# Altium integrated library NE5532P.IntLib: 1 symbol
Pins are listed as number, name and electrical type; pins without a type are passive.

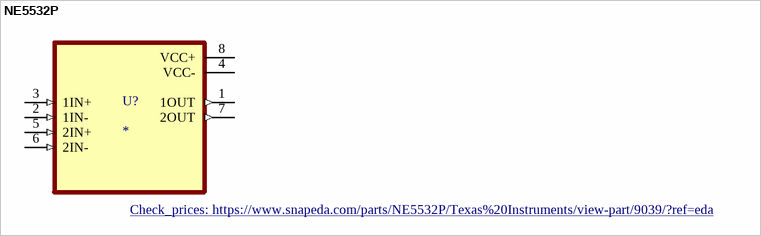
[diagram p0: symbol NE5532P]

## NE5532P
designator U?
Dual Low-Noise High-Speed Audio Operational Amplifier 8-PDIP 0 to 70; MF: Texas Instruments; MP: NE5532P; Value: *; Price: None; Package: PDIP-8 Texas; SnapEDA_Link: https://www.snapeda.com/parts/NE5532P/Texas%20Instruments/view-part/9039/?ref=snap; Availability: Good; Purchase-URL: https://pricing.snapeda.com/search/part/NE5532P/?ref=eda; Check_prices: https://www.snapeda.com/parts/NE5532P/Texas%20Instruments/view-part/9039/?ref=eda
footprint DIP794W45P254L959H508Q8
pins: 1 1OUT (out), 2 1IN- (in), 3 1IN+ (in), 4 VCC- (power), 5 2IN+ (in), 6 2IN- (in), 7 2OUT (out), 8 VCC+ (power)